# Altium integrated library TPD4E02B04.IntLib: 1 symbol
Pins are listed as number, name and electrical type; pins without a type are passive.

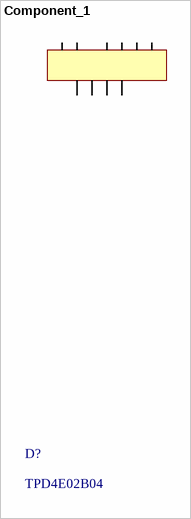
[diagram p0: symbol Component_1]

## Component_1
designator D?, comment TPD4E02B04
mf no.: TPD4E02B04DQAR; Company: TEXES INSTRUMENTS; Package Type: DQAR
footprint TI_TPD4E05U06DQAR
pins: 1 IO1 "ESD protection.", 2 IO2 "ESD protection.", 3 GND (power) "Ground.", 4 IO3 "ESD protection.", 5 IO4 "ESD protection.", 6 NC (oe) "Don't connect.", 7 NC (oe) "Don't connect.", 8 GND (power) "Ground.", 9 NC (oe) "Don't connect.", 10 NC (oe) "Don't connect."